# Altium footprint library NMOS_sizes.PcbLib: 1 footprints
Each footprint in its own frame and in the unit in brackets; x right, y up, seen from the top. Pads: shape width x height; smd on the part's side, far side on the other; paste and mask are expansions set on the pad; w line width, h text height; cw(c..) or ccw(c..) is an arc to the next point about the centre after c.
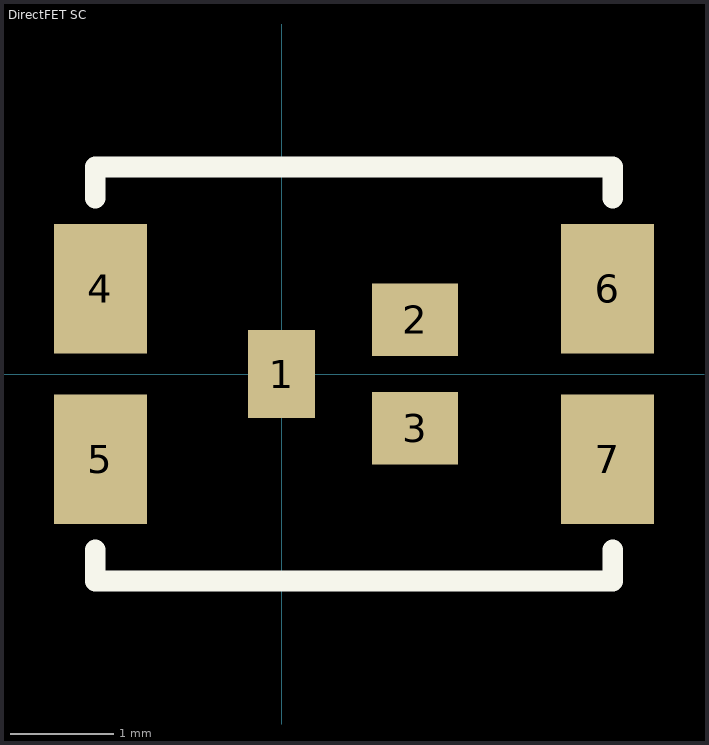
[diagram p0: the footprint, top view; thin cyan lines are the x and y axes]

## DirectFET SC [mm]
pads (7):
  rect 0.65x0.85 smd: 1(0,0)
  rect 0.83x0.7 smd: 2(1.29,0.525) 3(1.29,-0.525)
  rect 0.9x1.25 smd: 4(-1.75,0.825) 5(-1.75,-0.825) 6(3.15,0.825) 7(3.15,-0.825)
Top Overlay:
  lines w0.2: -1.8,-1.7 -1.8,-2 3.2,-2 3.2,-1.7 ; -1.8,1.7 -1.8,2 3.2,2 3.2,1.7
3D body "Directfet SC.STEP": height 0.71, standoff 0, extent -1.7,-1.89 3.1,1.89